# Altium footprint library MillMax.PcbLib: 2 footprints
Each footprint in its own frame and in the unit in brackets; x right, y up, seen from the top. Pads: shape width x height; smd on the part's side, far side on the other; paste and mask are expansions set on the pad; w line width, h text height; cw(c..) or ccw(c..) is an arc to the next point about the centre after c.
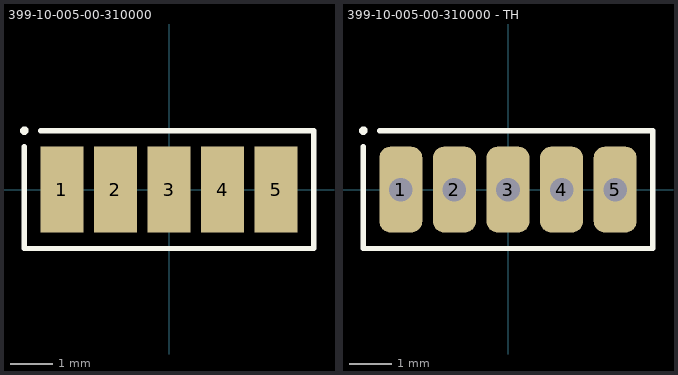
[diagram p0: the footprints below, top view; thin cyan lines are the x and y axes]

## 399-10-005-00-310000 [mil] "Conn Unshrouded Header HDR 6 POS 1.27mm Solder ST SMD"
pads (5):
  rect 40x80 smd: 1(-100,0) 2(-50,0) 3(0,0) 4(50,0) 5(100,0)
Top Overlay:
  circle w6: c-135,55 r1
  lines w5: -135,0 -135,40 ; -135,11.25 -135,-55 135,-55 135,55 -120,55
3D body "399-10-005-00-310000.step": height 194.99, standoff 0, extent -131.99,-43.49 133,43.51

## 399-10-005-00-310000 - TH [mil] "399-10-005-00-310000 Through-hole pattern"
pads (5):
  rrect50% 40x80 hole 22: 1(-100,0) 2(-50,0) 3(0,0) 4(50,0) 5(100,0)
Top Overlay:
  circle w6: c-135,55 r1
  lines w5: -135,0 -135,40 ; -135,11.25 -135,-55 135,-55 135,55 -120,55